# Altium schematic symbol library 0603 10K.Schlib: 1 symbol
Pins are listed as number, name and electrical type; pins without a type are passive.

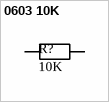
[diagram p0: symbol 0603 10K]

## 0603 10K
designator R?, comment value 10K  (hidden comment: Resistor)
Chip Resistor - Surface Mount 10KOhms ±1% 1/10W 0603 RoHS; LCSC Part #: C25804
footprint RES 0603_1608 (Chip Resistor, 2-Leads, Body 1.60x0.80mm, IPC Medium Density)
pins: 1, 2